# Altium footprint library blackfin_pcblib.PcbLib: 59 footprints (part 4 of 4)
Each footprint in its own frame and in the unit in brackets; x right, y up, seen from the top. Pads: shape width x height; smd on the part's side, far side on the other; paste and mask are expansions set on the pad; w line width, h text height; cw(c..) or ccw(c..) is an arc to the next point about the centre after c.
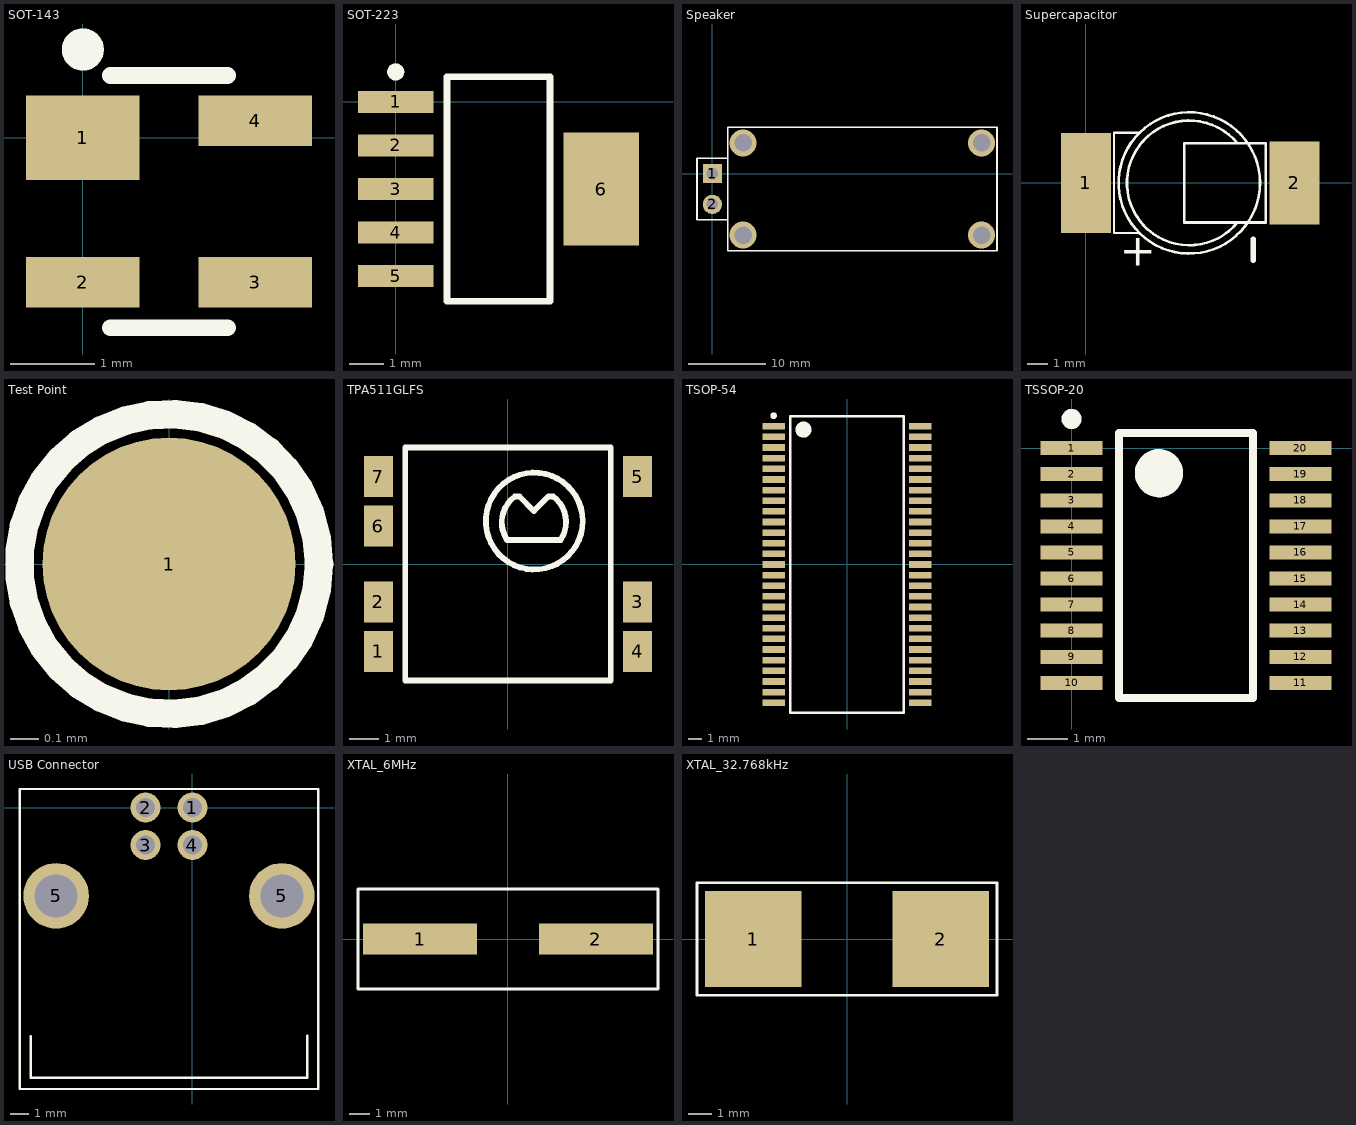
[diagram p3: the footprints below, top view; thin cyan lines are the x and y axes]

## SOT-143 [mm] "CAT811S"
height 1.22
pads (4):
  rect 1.35x1 smd: 1(0,0)
  rect 1.35x0.6 smd: 2(0,-1.72) 3(2.05,-1.72) 4(2.05,0.2)
Top Overlay:
  circle w0.25: c0,1.05 r0.125
  lines w0.2: 0.325,-2.26 1.725,-2.26 ; 0.325,0.74 1.725,0.74

## SOT-223 [mm] "TPS73701DCQ"
height 1.8
pads (6):
  rect 2.2x0.65 smd: 1(0,0) 2(0,-1.27) 3(0,-2.54) 4(0,-3.81) 5(0,-5.08)
  rect 2.2x3.3 smd: 6(6,-2.54)
Top Overlay:
  circle w0.25: c0,0.875 r0.125
  lines w0.2: 1.5,-5.815 4.5,-5.815 4.5,0.735 1.5,0.735 1.5,-5.815

## Speaker [mm] "Speaker"
pads (2):
  rect 2.5x2.5 hole 1.5: 1(0,0)
  round 2.5 hole 1.5: 2(0,-4)
via 35,-8 diameter 3.5 hole 2.3
via 35,4 diameter 3.5 hole 2.3
via 4,-8 diameter 3.5 hole 2.3
via 4,4 diameter 3.5 hole 2.3
Top Overlay:
  lines w0.2: 2,-6 -2,-6 -2,2 2,2 ; 2,-10 37,-10 37,6 2,6 2,-10
3D body: height 7.4, standoff 0, extent 1.9,-10.1 37,6.1

## Supercapacitor [mm] "EDLEN204A3R3S"
height 1.8
pads (2):
  rect 2.4x4.8 smd: 1(0,0)
  rect 2.4x4 smd: 2(10.033,0)
Top Overlay:
  circle w0.127: c4.975,0 r3.4
  lines w0.1: 2.591,-2.413 1.346,-2.413 1.346,2.413 2.591,2.413
  lines w0.127: 7.291,-1.906 cw(c4.975,0) 7.291,1.906 ; 4.724,-1.905 4.724,1.905 8.661,1.905 8.661,-1.905 4.724,-1.905
  lines w0.254: 8.052,-3.734 8.052,-2.718
  text "+" at 1.626,-3.988 h1.52

## Test Point [mm]
pads (1):
  round 0.9 smd: 1(0,0)
Top Overlay:
  circle w0.102: c0,0 r0.534

## TPA511GLFS [mm]
pads (7):
  rect 1x1.4 smd: 1(-4.45,-3) 2(-4.45,-1.3) 3(4.45,-1.3) 4(4.45,-3) 5(4.45,3) 6(-4.45,1.3) 7(-4.45,3)
Top Overlay:
  circle w0.2: c0.901,1.473 r1.664
  lines w0.2: 1.808,0.828 -0.032,0.828 cw(c0.887,1.432) 0.232,2.316 0.391,2.316 0.888,1.819 1.392,2.323 1.551,2.323 cw(c0.892,1.442) 1.808,0.834 ; -3.531,-4 3.531,-4 3.531,4 -3.531,4 -3.531,-4

## TSOP-54 [mm] "MT48LC16M16A2"
height 1.2
pads (54):
  rect 1.7x0.5 smd: 1(-5.525,10.4) 2(-5.525,9.6) 3(-5.525,8.8) 4(-5.525,8) 5(-5.525,7.2) 6(-5.525,6.4) 7(-5.525,5.6) 8(-5.525,4.8) 9(-5.525,4) 10(-5.525,3.2) 11(-5.525,2.4) 12(-5.525,1.6) 13(-5.525,0.8) 14(-5.525,0) 15(-5.525,-0.8) 16(-5.525,-1.6) 17(-5.525,-2.4) 18(-5.525,-3.2) 19(-5.525,-4) 20(-5.525,-4.8) 21(-5.525,-5.6) 22(-5.525,-6.4) 23(-5.525,-7.2) 24(-5.525,-8) 25(-5.525,-8.8) 26(-5.525,-9.6) 27(-5.525,-10.4) 28(5.525,-10.4) 29(5.525,-9.6) 30(5.525,-8.8) 31(5.525,-8) 32(5.525,-7.2) 33(5.525,-6.4) 34(5.525,-5.6) 35(5.525,-4.8) 36(5.525,-4) 37(5.525,-3.2) 38(5.525,-2.4) 39(5.525,-1.6) 40(5.525,-0.8) 41(5.525,0) 42(5.525,0.8) 43(5.525,1.6) 44(5.525,2.4) 45(5.525,3.2) 46(5.525,4) 47(5.525,4.8) 48(5.525,5.6) 49(5.525,6.4) 50(5.525,7.2) 51(5.525,8) 52(5.525,8.8) 53(5.525,9.6) 54(5.525,10.4)
Top Overlay:
  circle w0.25: c-5.525,11.2 r0.125
  circle w0.6: c-3.275,10.15 r0.3
  lines w0.2: -4.275,-11.15 -4.275,11.15 4.275,11.15 4.275,-11.15 -4.275,-11.15

## TSSOP-20 [mm] "AD73311LARUZ"
height 1.1
pads (20):
  rect 1.55x0.35 smd: 1(0,0) 2(0,-0.65) 3(0,-1.3) 4(0,-1.95) 5(0,-2.6) 6(0,-3.25) 7(0,-3.9) 8(0,-4.55) 9(0,-5.2) 10(0,-5.85) 11(5.7,-5.85) 12(5.7,-5.2) 13(5.7,-4.55) 14(5.7,-3.9) 15(5.7,-3.25) 16(5.7,-2.6) 17(5.7,-1.95) 18(5.7,-1.3) 19(5.7,-0.65) 20(5.7,0)
Top Overlay:
  circle w0.6: c2.175,-0.625 r0.3
  circle w0.25: c0,0.725 r0.125
  lines w0.2: 1.175,-6.225 4.525,-6.225 4.525,0.375 1.175,0.375 1.175,-6.225

## USB Connector [mm]
pads (6):
  round 1.6 hole 1: 1(0,0) 2(-2.5,0) 3(-2.5,-2) 4(0,-2)
  round 3.5 hole 2.3: 5(-7.27,-4.71) 5(4.77,-4.71)
Top Overlay:
  lines w0.127: -8.62,-12.206 -8.62,-14.41 6.12,-14.41 6.12,-12.156 ; -9.22,-15.01 6.72,-15.01 6.72,0.99 -9.22,0.99 -9.22,-15.01

## XTAL_6MHz [mm] "XTAL"
height 4.3
pads (2):
  rect 5.5x1.5 smd: 1(-4.25,0) 2(4.25,0)
Top Overlay:
  lines w0.127: -7.25,-2.415 -7.25,2.415 7.25,2.415 7.25,-2.415 -7.25,-2.415

## XTAL_32.768kHz [mm] "XTAL"
height 3.6
pads (2):
  rect 4.1x4.1 smd: 1(-4,0) 2(4,0)
Top Overlay:
  lines w0.127: -6.4,-2.4 6.4,-2.4 6.4,2.4 -6.4,2.4 -6.4,-2.4